# EAGLE library part LM358 (library op-amp)
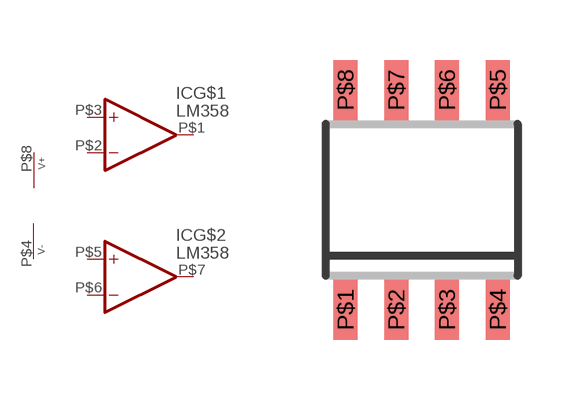
[diagram p16: symbol with the pads of SOIC-8; footprint SOIC-8]

Designator prefix IC; gates G$1=OPAMP_NV G$2=OPAMP_NV G$3=PWR_V+-

## LM358  [SOIC-8]
P$1  G$1:OUT  out
P$2  G$1:-IN  in
P$3  G$1:+IN  in
P$4  G$3:V-  pwr
P$5  G$2:+IN  in
P$6  G$2:-IN  in
P$7  G$2:OUT  out
P$8  G$3:V+  pwr

## Footprint SOIC-8 (pad centres in mm)
smd 0.6 x 1.5: P$1 -1.905,-2.75; P$2 -0.635,-2.75; P$3 0.635,-2.75; P$4 1.905,-2.75; P$5 1.905,2.75; P$6 0.635,2.75; P$7 -0.635,2.75; P$8 -1.905,2.75